# Altium schematic symbol library PVT412ASPBF.SchLib: 1 symbol
Pins are listed as number, name and electrical type; pins without a type are passive.

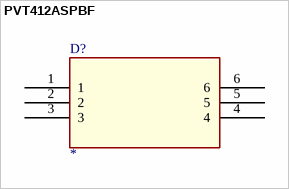
[diagram p0: symbol PVT412ASPBF]

## PVT412ASPBF
designator D?
No Description Available; Mfr_Name: Infineon; RefDes: RefDes; Type: Type
footprint SMD06_P250XP330_INF
pins: 1, 2, 3, 4, 5, 6